# EAGLE library part XOR_QUAD (library moth)
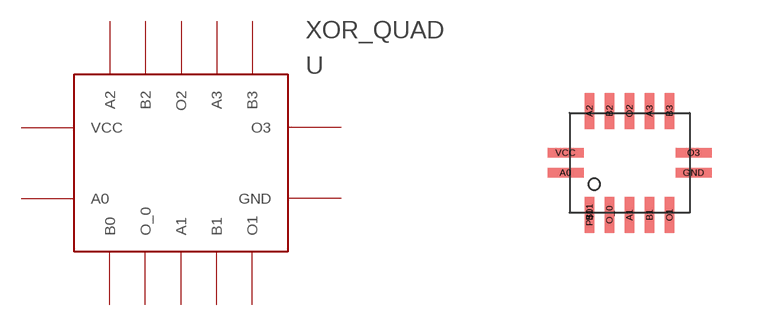
[diagram p3: symbol with the pads of QFN-14; footprint QFN-14]

Designator prefix -

## XOR_QUAD  [QFN-14]
A0  A0  in
A1  A1  in
A2  A2  in
A3  A3  in
B0  B0  in
B1  B1  in
B2  B2  in
B3  B3  in
GND  GND  pwr
O1  O1  out
O2  O2  out
O3  O3  out
O_0  O_0  out
VCC  VCC  pwr

## Footprint QFN-14 (pad centres in mm)
smd 0.9 x 0.24: A0 -1.6,-0.25; GND 1.6,-0.25; O3 1.6,0.25; VCC -1.6,0.25
smd 0.24 x 0.9: A1 0,-1.3; A2 -1,1.3; A3 0.5,1.3; B0 -1,-1.3; B1 0.5,-1.3; B2 -0.5,1.3; B3 1,1.3; O1 1,-1.3; O2 0,1.3; O_0 -0.5,-1.3; P$11 -1,-1.3